# EAGLE library part 62100821921 (library Wuerth_Elektronik_eiCan_Pin_&_Socked_Headers_v1.3)
WR-PHD 2.00mm Dual SMT Pin Header, 8 Pins
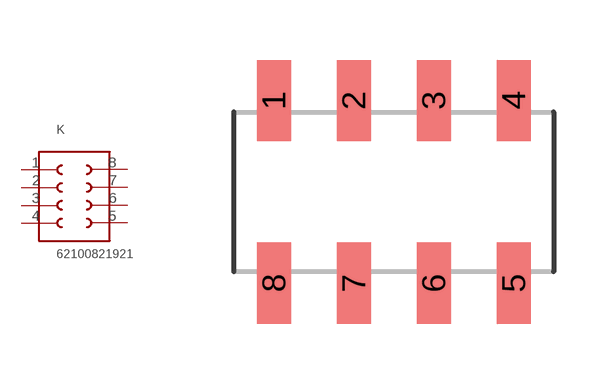
[diagram p280: symbol with the pads of 62100821921; footprint 62100821921]

Designator prefix K

## 62100821921  [62100821921]
1  1  pas
2  2  pas
3  3  pas
4  4  pas
5  5  pas
6  6  pas
7  7  pas
8  8  pas

## Footprint 62100821921 (pad centres in mm)
WR-PHD 2.00mm Dual SMT Pin Header, 8 Pins
smd 0.85 x 2.03: 1 -5,2.285; 2 -3,2.285; 3 -1,2.285; 4 1,2.285; 5 1,-2.285; 6 -1,-2.285; 7 -3,-2.285; 8 -5,-2.285